# EAGLE library part NJW1933-T (library voltage_regulators)
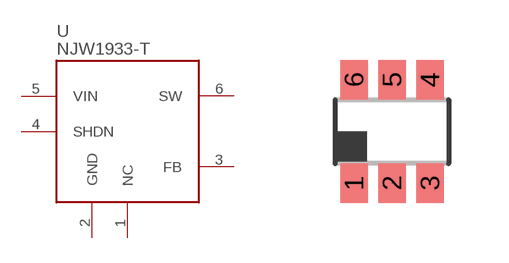
[diagram p4: symbol with the pads of SOT-23-6; footprint SOT-23-6]

Designator prefix -

## NJW1933-T  [SOT-23-6]
1  NC
2  GND
3  FB
4  SHDN
5  VIN
6  SW

## Footprint SOT-23-6 (pad centres in mm)
smd 0.69 x 0.99: 1 -0.95,-1.29; 2 0,-1.29; 3 0.95,-1.29; 4 0.95,1.3; 5 0,1.3; 6 -0.95,1.3